# EAGLE library part BU94603KV (library greg)
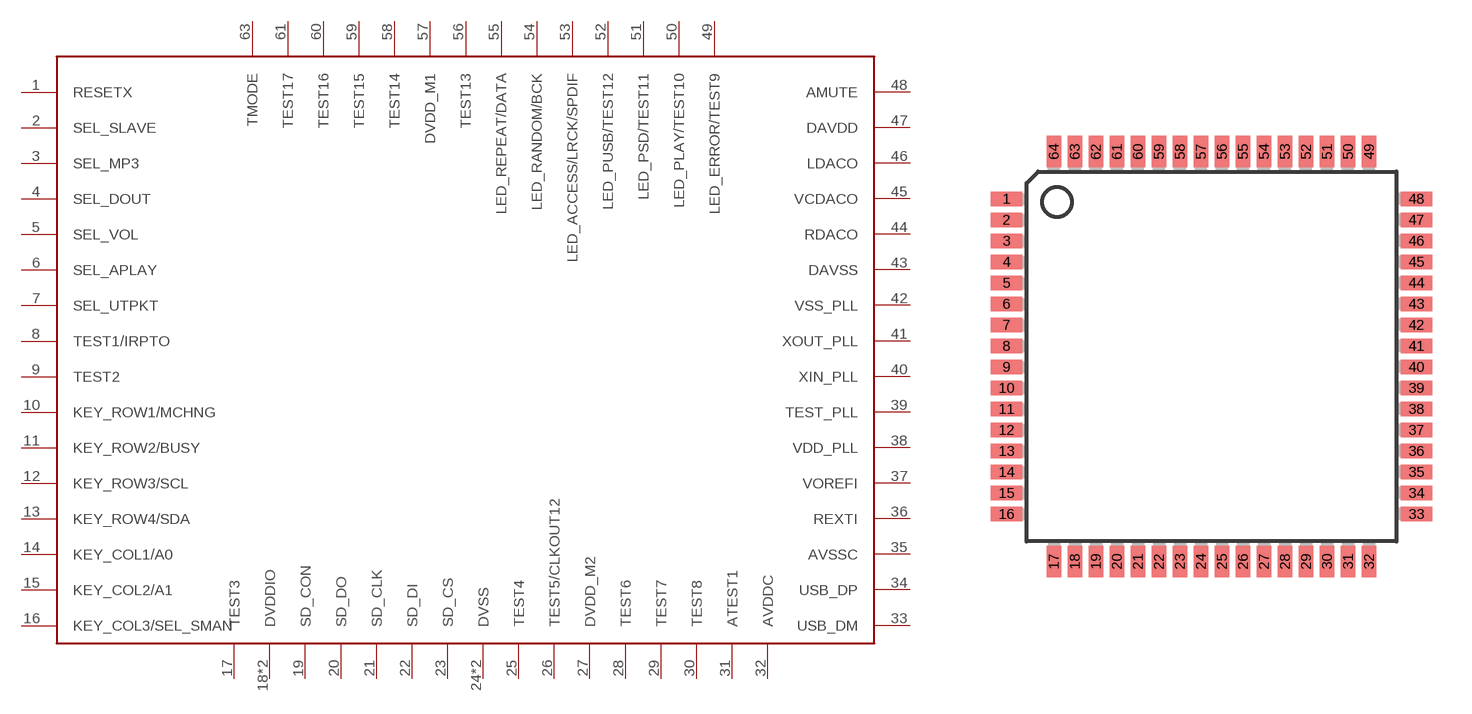
[diagram p23: symbol with the pads of TQFP64; footprint TQFP64]

Designator prefix -

## BU94603KVVQFP64  [TQFP64]
1  RESETX
2  SEL_SLAVE
3  SEL_MP3
4  SEL_DOUT
5  SEL_VOL
6  SEL_APLAY
7  SEL_UTPKT
8  TEST1/IRPTO
9  TEST2
10  KEY_ROW1/MCHNG
11  KEY_ROW2/BUSY
12  KEY_ROW3/SCL
13  KEY_ROW4/SDA
14  KEY_COL1/A0
15  KEY_COL2/A1
16  KEY_COL3/SEL_SMAN
17  TEST3
18  DVDDIO
19  SD_CON
20  SD_DO
21  SD_CLK
22  SD_DI
23  SD_CS
24  DVSS
25  TEST4
26  TEST5/CLKOUT12
27  DVDD_M2
28  TEST6
29  TEST7
30  TEST8
31  ATEST1
32  AVDDC
33  USB_DM
34  USB_DP
35  AVSSC
36  REXTI
37  VOREFI
38  VDD_PLL
39  TEST_PLL
40  XIN_PLL
41  XOUT_PLL
42  VSS_PLL
43  DAVSS
44  RDACO
45  VCDACO
46  LDACO
47  DAVDD
48  AMUTE
49  LED_ERROR/TEST9
50  LED_PLAY/TEST10
51  LED_PSD/TEST11
52  LED_PUSB/TEST12
53  LED_ACCESS/LRCK/SPDIF
54  LED_RANDOM/BCK
55  LED_REPEAT/DATA
56  TEST13
57  DVDD_M1
58  TEST14
59  TEST15
60  TEST16
61  TEST17
62  DVSS
63  TMODE
64  DVDDIO

## Footprint TQFP64 (pad centres in mm)
smd 1.194 x 0.559: 1 -7.8,6; 2 -7.8,5.2; 3 -7.8,4.4; 4 -7.8,3.6; 5 -7.8,2.8; 6 -7.8,2; 7 -7.8,1.2; 8 -7.8,0.4; 9 -7.8,-0.4; 10 -7.8,-1.2; 11 -7.8,-2; 12 -7.8,-2.8; 13 -7.8,-3.6; 14 -7.8,-4.4; 15 -7.8,-5.2; 16 -7.8,-6; 33 7.8,-6; 34 7.8,-5.2; 35 7.8,-4.4; 36 7.8,-3.6; 37 7.8,-2.8; 38 7.8,-2; 39 7.8,-1.2; 40 7.8,-0.4; 41 7.8,0.4; 42 7.8,1.2; 43 7.8,2; 44 7.8,2.8; 45 7.8,3.6; 46 7.8,4.4; 47 7.8,5.2; 48 7.8,6
smd 0.559 x 1.194: 17 -6,-7.8; 18 -5.2,-7.8; 19 -4.4,-7.8; 20 -3.6,-7.8; 21 -2.8,-7.8; 22 -2,-7.8; 23 -1.2,-7.8; 24 -0.4,-7.8; 25 0.4,-7.8; 26 1.2,-7.8; 27 2,-7.8; 28 2.8,-7.8; 29 3.6,-7.8; 30 4.4,-7.8; 31 5.2,-7.8; 32 6,-7.8; 49 6,7.8; 50 5.2,7.8; 51 4.4,7.8; 52 3.6,7.8; 53 2.8,7.8; 54 2,7.8; 55 1.2,7.8; 56 0.4,7.8; 57 -0.4,7.8; 58 -1.2,7.8; 59 -2,7.8; 60 -2.8,7.8; 61 -3.6,7.8; 62 -4.4,7.8; 63 -5.2,7.8; 64 -6,7.8